# Altium schematic symbol library INA239AIDGSR.SchLib: 1 symbol
Pins are listed as number, name and electrical type; pins without a type are passive.

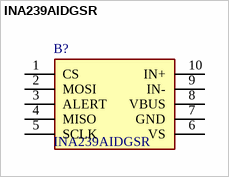
[diagram p0: symbol INA239AIDGSR]

## INA239AIDGSR
designator B?
Analog to Digital Converters - ADC 85-V, 16-bit, high-precision, SPI output current/voltage/power monitor with alert 10-VSSOP -40 to 125; Manufacturer_Name: Texas Instruments; Geometry.Height: 1.1mm; Mouser Part Number: 595-INA239AIDGSR; Mouser Price/Stock: https://www.mouser.co.uk/ProductDetail/Texas-Instruments/INA239AIDGSR?qs=DRkmTr78QASO8y6Kfjsnog%3D%3D; Manufacturer_Part_Number: INA239AIDGSR; Datasheet Link: https://www.ti.com/lit/ds/symlink/ina239.pdf?ts=1614782670721
footprint SOP50P490X110-10N
pins: 1 CS, 2 MOSI, 3 ALERT, 4 MISO, 5 SCLK, 6 VS, 7 GND, 8 VBUS, 9 IN-, 10 IN+